# Altium footprint library TFM-110-02-SM-D-A-K.PcbLib: 1 footprints
Each footprint in its own frame and in the unit in brackets; x right, y up, seen from the top. Pads: shape width x height; smd on the part's side, far side on the other; paste and mask are expansions set on the pad; w line width, h text height; cw(c..) or ccw(c..) is an arc to the next point about the centre after c.
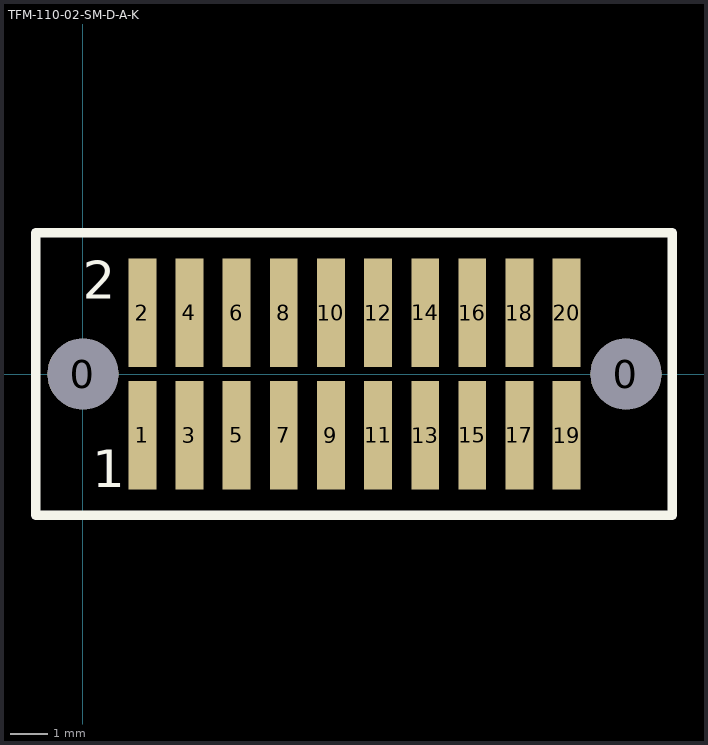
[diagram p0: the footprint, top view; thin cyan lines are the x and y axes]

## TFM-110-02-SM-D-A-K [mm]
pads (22):
  round 1.91 hole 1.91: 0(0,0) 0(14.63,0)
  rect 0.75x2.92 smd: 1(1.6,-1.651) 2(1.6,1.651) 3(2.87,-1.651) 4(2.87,1.651) 5(4.14,-1.651) 6(4.14,1.651) 7(5.41,-1.651) 8(5.41,1.651) 9(6.68,-1.651) 10(6.68,1.651) 11(7.95,-1.651) 12(7.95,1.651) 13(9.22,-1.651) 14(9.22,1.651) 15(10.49,-1.651) 16(10.49,1.651) 17(11.76,-1.651) 18(11.76,1.651) 19(13.03,-1.651) 20(13.03,1.651)
Top Overlay:
  lines w0.254: -1.27,-3.81 15.875,-3.81 15.875,3.81 -1.27,3.81 -1.27,-3.81
  text "2" at 0,2.032 h1.02
  text "1" at 0.254,-3.048 h1.02
3D body: height 5.97, standoff -1.02, extent -0.612,-3 15.262,2.969